# Altium schematic symbol library 2SC2413K.Schlib: 1 symbol
Pins are listed as number, name and electrical type; pins without a type are passive.

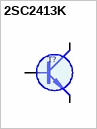
[diagram p0: symbol 2SC2413K]

## 2SC2413K
designator T?
SOT23     50V 50mA    300MHz 1.3p
pins: 1 B, 2 E (oe), 3 C (oc)
1 alternate drawing of the same symbol